# EAGLE library part USDCARD-SCHA(PUSHPULL-TYPE) (library dw-usd SCHA(Push-Pull type))
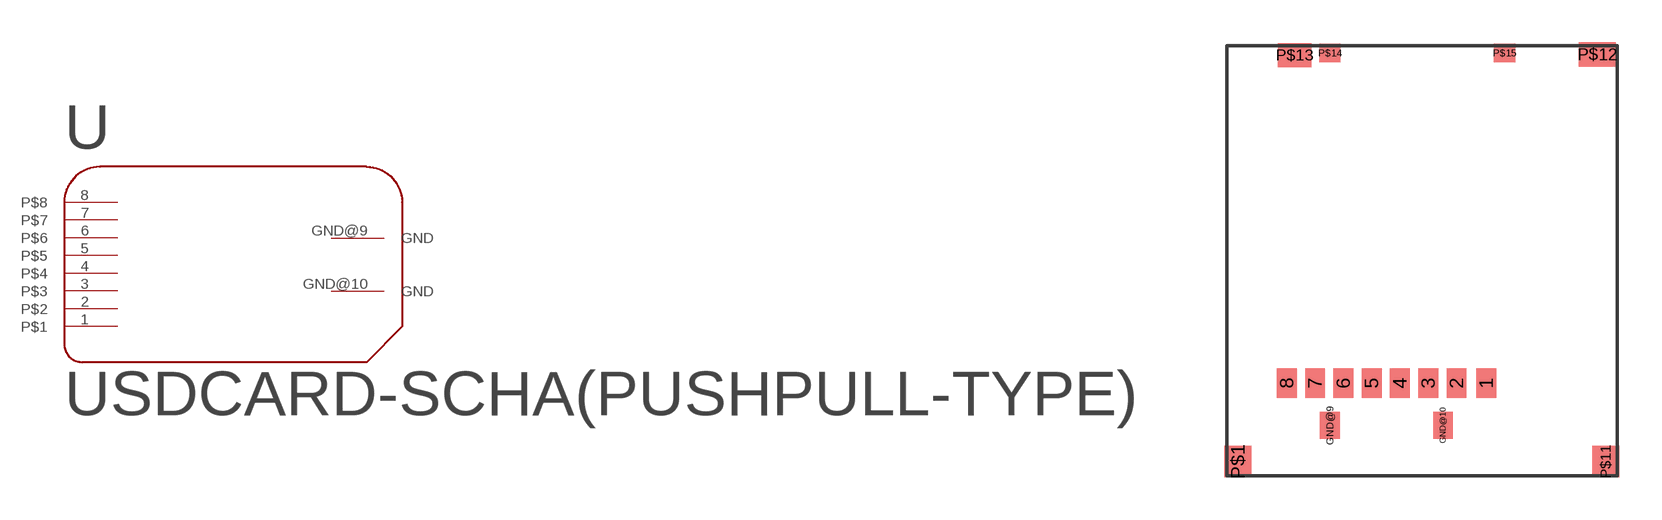
[diagram p0: symbol with the pads of USDCARD_SCHA(PP-TYPE); footprint USDCARD_SCHA(PP-TYPE)]

Designator prefix -

## USDCARD-SCHA(PUSHPULL-TYPE)  [USDCARD_SCHA(PP-TYPE)]
1  P$1
2  P$2
3  P$3
4  P$4
5  P$5
6  P$6
7  P$7
8  P$8
GND@9  GND
GND@10  GND

## Footprint USDCARD_SCHA(PP-TYPE) (pad centres in mm)
smd 0.7 x 1.05: 1 2.275,3.275; 2 1.225,3.275; 3 0.225,3.275; 4 -0.775,3.275; 5 -1.775,3.275; 6 -2.775,3.275; 7 -3.775,3.275; 8 -4.775,3.275
smd 0.7 x 0.95: GND@9 -3.25,1.775; GND@10 0.75,1.775
smd 0.95 x 1.1: P$1 -6.5,0.5; P$11 6.5,0.5
smd 1.3 x 0.85: P$12 6.2,14.9
smd 1.2 x 0.85: P$13 -4.5,14.875
smd 0.75 x 0.65: P$14 -3.25,14.95; P$15 2.925,14.95